# Altium footprint library 辉光管.PcbLib: 29 footprints (part 1 of 2)
Each footprint in its own frame and in the unit in brackets; x right, y up, seen from the top. Pads: shape width x height; smd on the part's side, far side on the other; paste and mask are expansions set on the pad; w line width, h text height; cw(c..) or ccw(c..) is an arc to the next point about the centre after c.
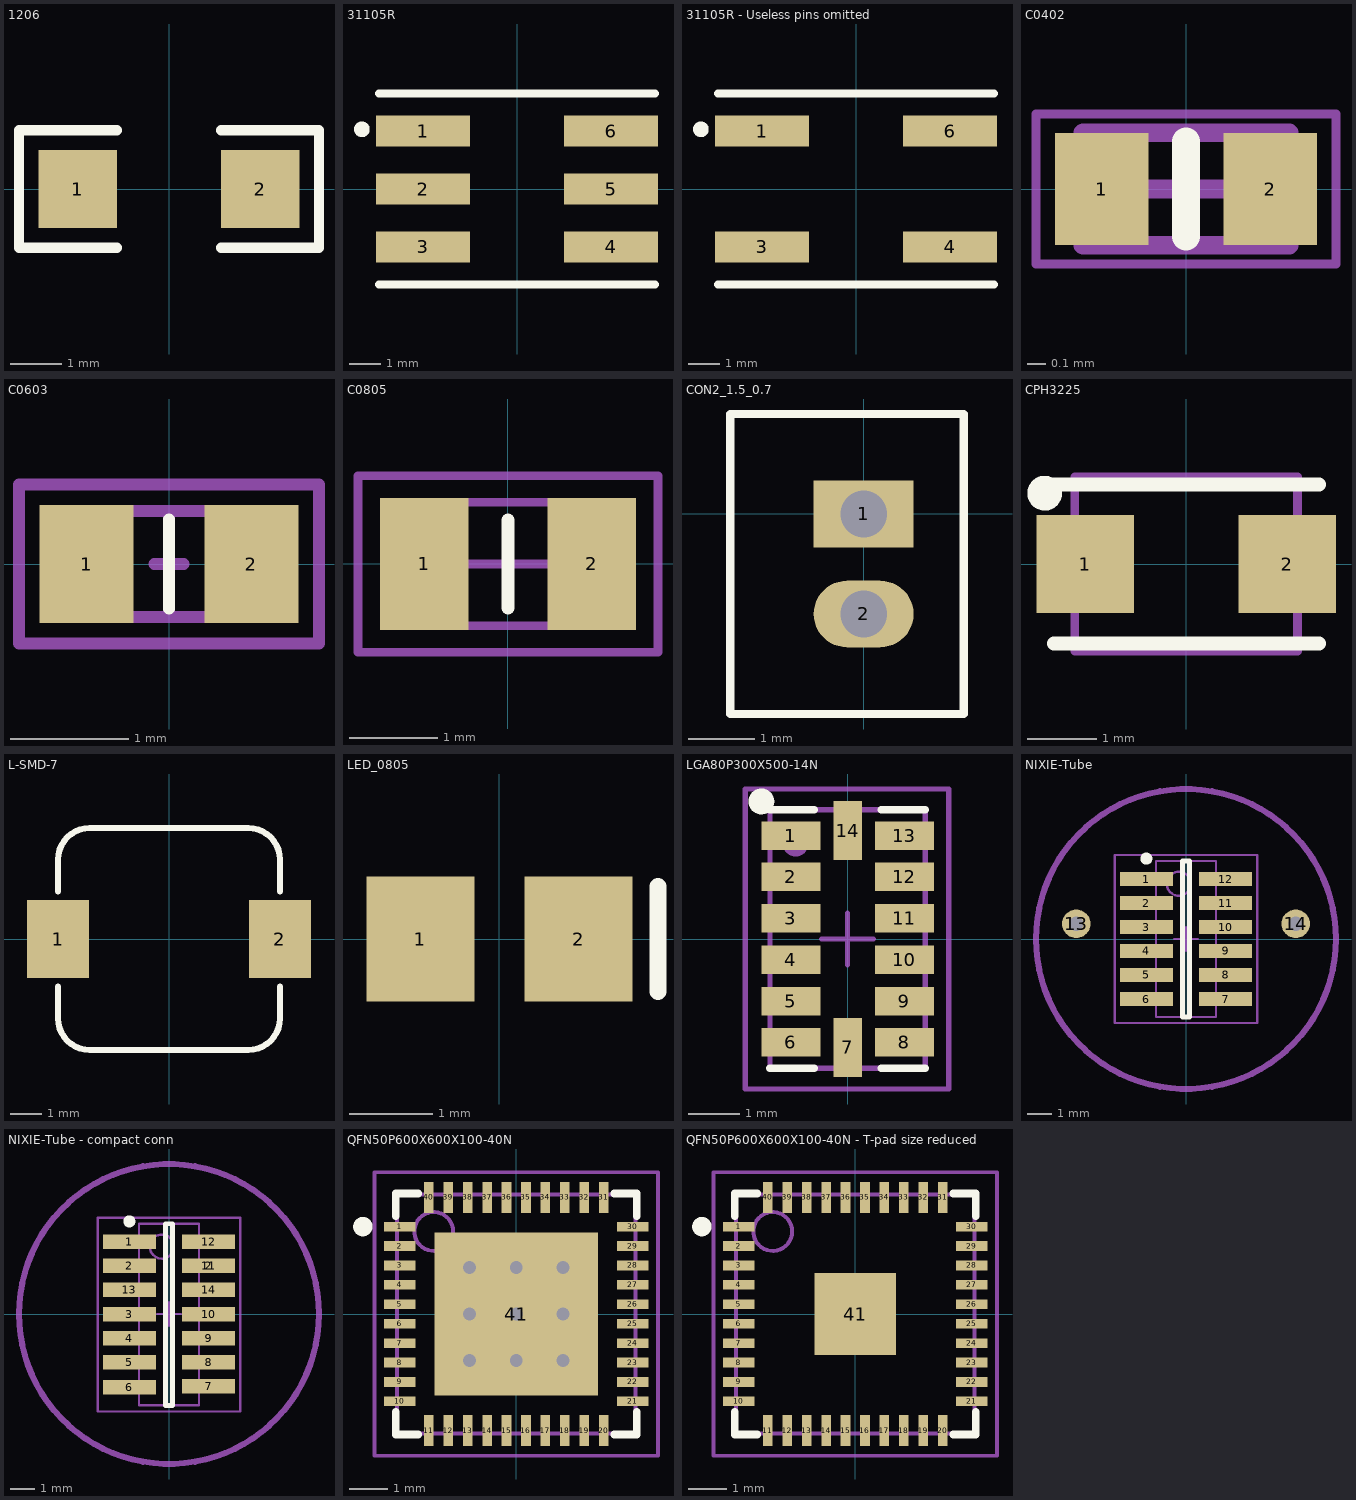
[diagram p0: the footprints below, top view; thin cyan lines are the x and y axes]

## 1206 [mil] "贴片元件"
height 59.06
pads (2):
  rect 60x60 smd: 1(-70,0) 2(70,0)
Top Overlay:
  lines w7.87: -40,-45 -115,-45 -115,45 -40,45 ; 40,-45 115,-45 115,45 40,45
3D body: height 39.37, standoff 0, extent -55,-35 55,35
3D body: height 39.37, standoff 0, extent 55,-35 75,35
3D body: height 39.37, standoff 0, extent -75,-35 -55,35

## 31105R [mm]
height 6.35
pads (6):
  rect 3x1 smd: 1(-3,1.85) 2(-3,0) 3(-3,-1.85) 4(3,-1.85) 5(3,0) 6(3,1.85)
Top Overlay:
  circle w0.25: c-4.951,1.905 r0.125
  lines w0.254: -4.4,-3.05 4.4,-3.05 ; -4.4,3.05 4.4,3.05

## 31105R - Useless pins omitted [mm]
height 6.35
pads (4):
  rect 3x1 smd: 1(-3,1.85) 3(-3,-1.85) 4(3,-1.85) 6(3,1.85)
Top Overlay:
  circle w0.25: c-4.951,1.905 r0.125
  lines w0.254: -4.4,-3.05 4.4,-3.05 ; -4.4,3.05 4.4,3.05

## C0402 [mm] "Chip Capacitor, 2-Leads, Body 1,0x0,5mm, IPC High Density"
height 0.4
pads (2):
  rect 0.5x0.6 smd: 1(-0.45,0) 2(0.45,0)
Top Overlay:
  lines w0.15: 0,-0.254 0,0.254
Mechanical 1:
  lines w0.05: -0.8,-0.4 -0.8,0.4 0.8,0.4 0.8,-0.4 -0.8,-0.4
  lines w0.1: -0.3,0 0.3,0 ; 0,-0.3 0,0.3
Mechanical 2:
  lines w0.1: -0.55,-0.3 0.55,-0.3 0.55,0.3 -0.55,0.3 -0.55,-0.3
3D body: height 0.55, standoff 0, extent -0.5,-0.25 0.5,0.25

## C0603 [mm] "Capacitor, 2-Leads, Body 1,6x0,8mm, IPC High Density"
height 0.8
pads (2):
  rect 0.8x1 smd: 1(-0.7,0) 2(0.7,0)
Top Overlay:
  lines w0.1: 0,-0.381 0,0.381
Mechanical 1:
  lines w0.1: -0.125,0 0.125,0 ; 0,-0.45 0,0.45 ; -1.275,-0.675 -1.275,0.675 1.275,0.675 1.275,-0.675 -1.275,-0.675
Mechanical 2:
  lines w0.1: -0.825,-0.45 -0.825,0.45 0.825,0.45 0.825,-0.45 -0.825,-0.45
3D body: height 0.92, standoff 0, extent -0.8,-0.4 0.8,0.4

## C0805 [mm] "Chip Capacitor, Body 2.0x1.2mm, IPC High Density"
height 0.7
pads (2):
  rect 1x1.5 smd: 1(-0.95,0) 2(0.95,0)
Top Overlay:
  lines w0.15: 0,-0.5 0,0.5
Mechanical 1:
  lines w0.1: -0.5,0 0.5,0 ; 0,-0.5 0,0.5 ; -1.7,-1 -1.7,1 1.7,1 1.7,-1 -1.7,-1
Mechanical 2:
  lines w0.05: -0.625,-0.7 -0.625,0.7 ; 0.625,-0.7 0.625,0.7
  lines w0.1: -1.075,-0.7 -1.075,0.7 1.075,0.7 1.075,-0.7 -1.075,-0.7
3D body: height 0.95, standoff 0, extent 0.5,-0.7 1.075,0.7
3D body: height 0.95, standoff 0, extent -0.5,-0.7 0.5,0.7
3D body: height 0.95, standoff 0, extent -1.075,-0.7 -0.5,0.7
3D body: height 0.95, standoff 0, extent -1,-0.6 1,0.6
3D body: height 0.1, standoff -0.1, extent -1.45,-0.75 -0.45,0.75
3D body: height 0.1, standoff -0.1, extent 0.45,-0.75 1.45,0.75

## CON2_1.5_0.7 [mm]
pads (2):
  rect 1.5x1 hole 0.7 mask+0.102: 1(0,0)
  oval 1.5x1 hole 0.7 mask+0.102: 2(0,-1.5)
Top Overlay:
  circle w0.127: c0,-1.5 r0.35
  circle w0.127: c0,0 r0.35
  lines w0.127: -2,-3 -2,1.5 1.5,1.5 1.5,-3 -2,-3

## CPH3225 [mm] "Tantal Capacitor, Body 3,2 x 2,5"
height 1
pads (2):
  rect 1.4x1.4 smd: 1(-1.45,0) 2(1.45,0)
Top Overlay:
  circle w0.25: c-2.03,1.016 r0.125
  lines w0.2: -1.895,-1.143 1.905,-1.143 ; -1.895,1.143 1.905,1.143
Mechanical 1:
  lines w0.127: -1.6,-1.25 -1.6,1.25 1.6,1.25 1.6,-1.25 -1.6,-1.25
3D body: height 0.9, standoff 0, extent -1.6,-1.25 1.6,1.25

## L-SMD-7 [mm] "贴片电感7*7"
pads (2):
  rect 2x2.5 smd: 1(-3.556,0) 2(3.556,0)
Top Overlay:
  lines w0.2: -3.556,-1.524 -3.556,-2.54 ccw(c-2.54,-2.54) -2.54,-3.556 2.54,-3.556 ccw(c2.54,-2.54) 3.556,-2.54 3.556,-1.524 ; -3.556,1.524 -3.556,2.54 cw(c-2.54,2.54) -2.54,3.556 2.54,3.556 cw(c2.54,2.54) 3.556,2.54 3.556,1.524
3D body: height 4, standoff 0, extent -3.556,-3.556 3.556,3.556

## LED_0805 [mm] "贴片二极管"
height 1.1
pads (2):
  rect 1.3x1.5 smd: 1(-0.95,0) 2(0.95,0)
Top Overlay:
  lines w0.2: 1.905,-0.635 1.905,0.635

## LGA80P300X500-14N [mm] "LGA, 14-Leads, Body 5,0x3,0mm (max), Pitch 1,01mm, Pitch1 0,80mm, IPC Medium Density"
height 1
pads (14):
  rect 1.145x0.55 smd: 1(-1.098,2) 2(-1.098,1.2) 3(-1.098,0.4) 4(-1.098,-0.4) 5(-1.098,-1.2) 6(-1.098,-2) 8(1.098,-2) 9(1.098,-1.2) 10(1.098,-0.4) 11(1.098,0.4) 12(1.098,1.2) 13(1.098,2)
  rect 0.55x1.145 smd: 7(0,-2.097) 14(0,2.097)
Top Overlay:
  circle w0.25: c-1.668,2.659 r0.125
  lines w0.15: -1.5,-2.5 -0.65,-2.5 ; -1.5,2.5 -0.65,2.5 ; 0.65,-2.5 1.5,-2.5 ; 0.65,2.5 1.5,2.5
Mechanical 1:
  lines w0.1: -0.5,0 0.5,0 ; 0,-0.5 0,0.5 ; -1.981,-2.9 1.956,-2.9 1.956,2.9 -1.981,2.9 -1.981,-2.9
Mechanical 2:
  circle w0.25: c-1.008,1.846 r0.125
  lines w0.1: -1.5,-2.5 1.5,-2.5 1.5,2.5 -1.5,2.5 -1.5,-2.5
3D body: height 1.03, standoff -0.4, extent -1.5,-2.489 1.5,2.511

## NIXIE-Tube [mm] "SOP, 12-Leads, Body 6.5x2.5mm (max), Pitch 1.00mm, IPC Medium Density"
height 2.25
pads (14):
  rect 2.2x0.6 smd: 1(-1.65,2.5) 2(-1.65,1.5) 3(-1.65,0.5) 4(-1.65,-0.5) 5(-1.65,-1.5) 6(-1.65,-2.5) 7(1.65,-2.5) 8(1.65,-1.5) 9(1.65,-0.5) 10(1.65,0.5) 11(1.65,1.5) 12(1.65,2.5)
  round 1.2 hole 0.6: 13(-4.572,0.635) 14(4.572,0.635)
Top Overlay:
  circle w0.25: c-1.65,3.35 r0.125
  lines w0.2: -0.15,-3.25 0.15,-3.25 0.15,3.25 -0.15,3.25 -0.15,-3.25
Mechanical 1:
  circle w0.254: c0,0 r6.25
Mechanical 13:
  circle w0.1: c-0.3,2.3 r0.5
  lines w0.1: -1.25,-3.25 1.25,-3.25 1.25,3.25 -1.25,3.25 -1.25,-3.25
Mechanical 15:
  lines w0.1: -0.5,0 0.5,0 ; 0,-0.5 0,0.5 ; -2.975,-3.5 2.975,-3.5 2.975,3.5 -2.975,3.5 -2.975,-3.5
3D body: height 32, standoff 3, extent -6.198,-6.198 6.198,6.198
3D body: height 2.2, standoff -0.05, extent -1.905,-3.159 1.905,3.159

## NIXIE-Tube - compact conn [mm] "SOP, 12-Leads, Body 6.5x2.5mm (max), Pitch 1.00mm, IPC Medium Density"
height 2.25
pads (15):
  rect 2.2x0.6 smd: 1(-1.65,3.028) 2(-1.65,2.028) 2(1.65,2.028) 3(-1.65,0.012) 4(-1.65,-0.988) 5(-1.65,-1.988) 6(-1.651,-3.028) 7(1.65,-2.988) 8(1.65,-1.988) 9(1.65,-0.988) 10(1.65,0.012) 11(1.65,2.028) 12(1.65,3.028) 13(-1.651,1.036) 14(1.651,1.036)
Top Overlay:
  circle w0.25: c-1.65,3.878 r0.125
  lines w0.2: -0.15,-3.79 -0.15,3.778 0.15,3.778 0.15,-3.79 -0.15,-3.79
Mechanical 1:
  circle w0.254: c0,0.02 r6.25
Mechanical 13:
  circle w0.1: c-0.3,2.828 r0.5
  lines w0.1: -1.25,-3.79 -1.25,3.778 1.25,3.778 1.25,-3.79 -1.25,-3.79
Mechanical 15:
  lines w0.1: -0.5,0.02 0.5,0.02 ; 0,-0.48 0,0.52 ; -2.975,-4.044 -2.975,4.028 2.975,4.028 2.975,-4.044 -2.975,-4.044
3D body: height 2.2, standoff -0.05, extent -1.905,-2.631 1.905,3.687
3D body: height 32, standoff 3, extent -6.198,-6.178 6.198,6.218

## PCBComponent_1 [mm]

## QFN50P600X600X100-40N [mm] "QFN, 40-Leads, Body 6.2x6.2mm (max), Pitch 0.50mm, IPC Medium Density"
height 1
pads (41):
  rect 0.8x0.25 smd: 1(-3,2.25) 2(-3,1.75) 3(-3,1.25) 4(-3,0.75) 5(-3,0.25) 6(-3,-0.25) 7(-3,-0.75) 8(-3,-1.25) 9(-3,-1.75) 10(-3,-2.25) 21(3,-2.25) 22(3,-1.75) 23(3,-1.25) 24(3,-0.75) 25(3,-0.25) 26(3,0.25) 27(3,0.75) 28(3,1.25) 29(3,1.75) 30(3,2.25)
  rect 0.25x0.8 smd: 11(-2.25,-3) 12(-1.75,-3) 13(-1.25,-3) 14(-0.75,-3) 15(-0.25,-3) 16(0.25,-3) 17(0.75,-3) 18(1.25,-3) 19(1.75,-3) 20(2.25,-3) 31(2.25,3) 32(1.75,3) 33(1.25,3) 34(0.75,3) 35(0.25,3) 36(-0.25,3) 37(-0.75,3) 38(-1.25,3) 39(-1.75,3) 40(-2.25,3)
  rect 4.2x4.2 smd: 41(0,0)
via -1.2,1.2 diameter 0.66 hole 0.33
via 0,1.2 diameter 0.66 hole 0.33
via 1.2,1.2 diameter 0.66 hole 0.33
via 1.2,0 diameter 0.66 hole 0.33
via 1.2,-1.2 diameter 0.66 hole 0.33
via 0,-1.2 diameter 0.66 hole 0.33
via -1.2,0 diameter 0.66 hole 0.33
via 0,0 diameter 0.66 hole 0.33
via -1.2,-1.2 diameter 0.66 hole 0.33
Top Overlay:
  circle w0.25: c-3.95,2.25 r0.125
  lines w0.2: -3.1,-2.525 -3.1,-3.1 -2.525,-3.1 ; -3.1,2.525 -3.1,3.1 -2.525,3.1 ; 2.525,-3.1 3.1,-3.1 3.1,-2.525 ; 2.525,3.1 3.1,3.1 3.1,2.525
Mechanical 13:
  circle w0.1: c-2.125,2.125 r0.5
  lines w0.1: -3.075,-3.075 -3.075,3.075 3.075,3.075 3.075,-3.075 -3.075,-3.075
Mechanical 15:
  lines w0.1: -0.5,0 0.5,0 ; 0,-0.5 0,0.5 ; -3.65,-3.65 -3.65,3.65 3.65,3.65 3.65,-3.65 -3.65,-3.65
3D body: height 1, standoff 0.05, extent -3.075,-3.075 3.075,3.075

## QFN50P600X600X100-40N - T-pad size reduced [mm] "QFN, 40-Leads, Body 6.2x6.2mm (max), Pitch 0.50mm, IPC Medium Density"
height 1
pads (41):
  rect 0.8x0.25 smd: 1(-3,2.25) 2(-3,1.75) 3(-3,1.25) 4(-3,0.75) 5(-3,0.25) 6(-3,-0.25) 7(-3,-0.75) 8(-3,-1.25) 9(-3,-1.75) 10(-3,-2.25) 21(3,-2.25) 22(3,-1.75) 23(3,-1.25) 24(3,-0.75) 25(3,-0.25) 26(3,0.25) 27(3,0.75) 28(3,1.25) 29(3,1.75) 30(3,2.25)
  rect 0.25x0.8 smd: 11(-2.25,-3) 12(-1.75,-3) 13(-1.25,-3) 14(-0.75,-3) 15(-0.25,-3) 16(0.25,-3) 17(0.75,-3) 18(1.25,-3) 19(1.75,-3) 20(2.25,-3) 31(2.25,3) 32(1.75,3) 33(1.25,3) 34(0.75,3) 35(0.25,3) 36(-0.25,3) 37(-0.75,3) 38(-1.25,3) 39(-1.75,3) 40(-2.25,3)
  rect 2.1x2.1 smd: 41(0,0)
Top Overlay:
  circle w0.25: c-3.95,2.25 r0.125
  lines w0.2: -3.1,-2.525 -3.1,-3.1 -2.525,-3.1 ; -3.1,2.525 -3.1,3.1 -2.525,3.1 ; 2.525,-3.1 3.1,-3.1 3.1,-2.525 ; 2.525,3.1 3.1,3.1 3.1,2.525
Mechanical 13:
  circle w0.1: c-2.125,2.125 r0.5
  lines w0.1: -3.075,-3.075 -3.075,3.075 3.075,3.075 3.075,-3.075 -3.075,-3.075
Mechanical 15:
  lines w0.1: -0.5,0 0.5,0 ; 0,-0.5 0,0.5 ; -3.65,-3.65 -3.65,3.65 3.65,3.65 3.65,-3.65 -3.65,-3.65
3D body: height 1, standoff 0.05, extent -3.075,-3.075 3.075,3.075